# EAGLE library part 62102821021 (library Board_to_Board_Connectors_rev15d)
WR-PHD 1.27mm Dual SMT Pin Header H=3.80 mm, 28 Pins=>Code : Con_BTB_PHD_1.27_2_62102821021 <http://katalog.we-online.de/media/thumbs2/eican/thb_Con_BTB_PHD_1.27_2_6210xx21021_pf2.jpg> Details see: http://katalog.we-online.de/en/em/621_0xx_210_21 Created 2014-06-03, Karrer Zheng 2014 (C) Würth Elektronik
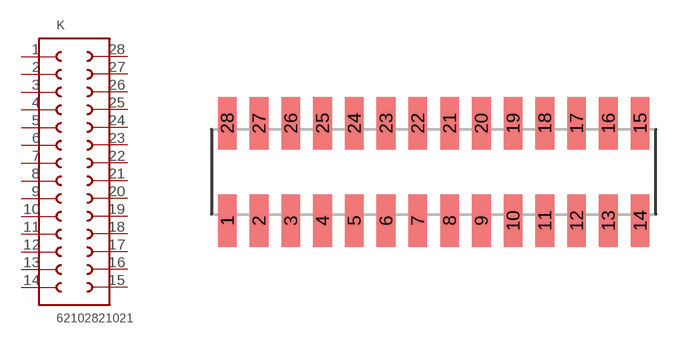
[diagram p295: symbol with the pads of 62102821021; footprint 62102821021]

Designator prefix K

## 62102821021  [62102821021]
1  1  pas
2  2  pas
3  3  pas
4  4  pas
5  5  pas
6  6  pas
7  7  pas
8  8  pas
9  9  pas
10  10  pas
11  11  pas
12  12  pas
13  13  pas
14  14  pas
15  15  pas
16  16  pas
17  17  pas
18  18  pas
19  19  pas
20  20  pas
21  21  pas
22  22  pas
23  23  pas
24  24  pas
25  25  pas
26  26  pas
27  27  pas
28  28  pas

## Footprint 62102821021 (pad centres in mm)
WR-PHD 1.27mm Dual SMT Pin Header H=3.80 mm, 28 Pins
smd 0.75 x 2.1: 1 -8.255,-1.95; 2 -6.985,-1.95; 3 -5.715,-1.95; 4 -4.445,-1.95; 5 -3.175,-1.95; 6 -1.905,-1.95; 7 -0.635,-1.95; 8 0.635,-1.95; 9 1.905,-1.95; 10 3.175,-1.95; 11 4.445,-1.95; 12 5.715,-1.95; 13 6.985,-1.95; 14 8.255,-1.95; 15 8.255,1.95; 16 6.985,1.95; 17 5.715,1.95; 18 4.445,1.95; 19 3.175,1.95; 20 1.905,1.95; 21 0.635,1.95; 22 -0.635,1.95; 23 -1.905,1.95; 24 -3.175,1.95; 25 -4.445,1.95; 26 -5.715,1.95; 27 -6.985,1.95; 28 -8.255,1.95